# Altium schematic symbol library COG-C177MVHG-03(pin23_08).SchLib: 1 symbol
Pins are listed as number, name and electrical type; pins without a type are passive.

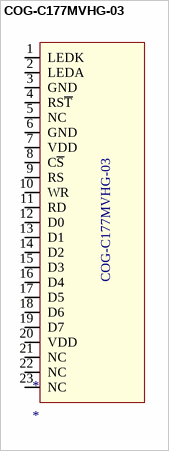
[diagram p0: symbol COG-C177MVHG-03]

## COG-C177MVHG-03
designator *
footprint 23PIN
pins: 1 LEDK, 2 LEDA, 3 GND, 4 RS~{T}, 5 NC, 6 GND, 7 VDD, 8 C~{S}, 9 RS, 10 WR, 11 RD, 12 D0, 13 D1, 14 D2, 15 D3, 16 D4, 17 D5, 18 D6, 19 D7, 20 VDD, 21 NC, 22 NC, 23 NC